# EAGLE library part CSD16401Q5 (library Mosfet_CSD16401Q5)
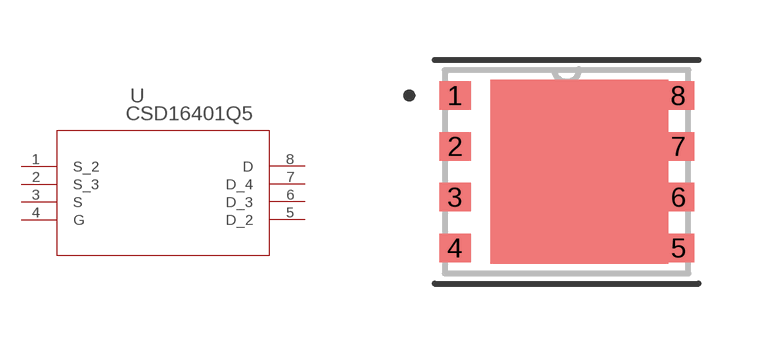
[diagram p0: symbol with the pads of DQH8; footprint DQH8]

Designator prefix U

## CSD16401Q5 (MANUFACTURER_PART_NUMBER: CSD16401Q5; VENDOR: Texas Instruments)  [DQH8]
1  S_2  pas
2  S_3  pas
3  S  pas
4  G  pas
5  D_2  pas
6  D_3  pas
7  D_4  pas
8  D  pas

## Footprint DQH8 (pad centres in mm)
smd 0.787 x 0.711: 1 -2.794,1.905; 2 -2.794,0.635; 3 -2.794,-0.635; 4 -2.794,-1.905; 5 2.794,-1.905; 6 2.794,-0.635; 7 2.794,0.635; 8 2.794,1.905